# Altium footprint library X.PcbLib: 3 footprints
Each footprint in its own frame and in the unit in brackets; x right, y up, seen from the top. Pads: shape width x height; smd on the part's side, far side on the other; paste and mask are expansions set on the pad; w line width, h text height; cw(c..) or ccw(c..) is an arc to the next point about the centre after c.
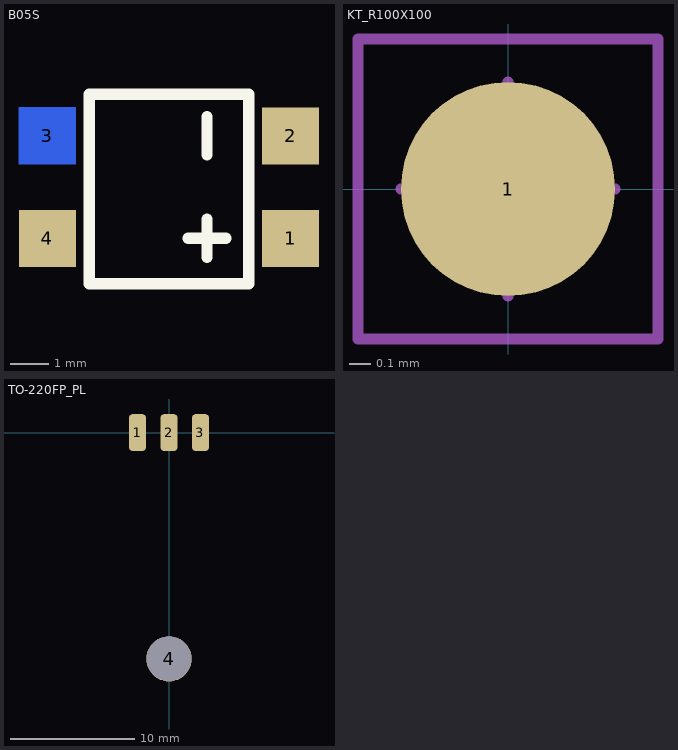
[diagram p0: the footprints below, top view; thin cyan lines are the x and y axes]

## B05S [mm]
pads (4):
  rect 1.5x1.5 smd: 1(19.304,10.16) 2(19.304,12.86) 4(12.904,10.16)
  rect 1.5x1.5 smd far side: 3(12.904,12.86)
Top Overlay:
  lines w0.3: 16.604,10.16 17.604,10.16 ; 17.104,9.66 17.104,10.66 ; 17.104,12.36 17.104,13.36 ; 14.004,8.96 14.004,13.96 18.204,13.96 18.204,8.96 14.004,8.96

## KT_R100X100 [mm] "KT, Round, 1mm x 1mm"
height 0.018
pads (1):
  round 1 smd: 1(0,0)
Mechanical 15:
  lines w0.05: -0.5,0 0.5,0 ; 0,-0.5 0,0.5 ; -0.7,-0.7 0.7,-0.7 0.7,0.7 -0.7,0.7 -0.7,-0.7

## TO-220FP_PL [mm]
pads (4):
  rrect50% 1.4x3 all layers, no hole: 1(-2.54,0) 2(0,0) 3(2.54,0)
  round 3.65 hole 3.6: 4(0,-18.26)
Bottom Overlay:
  region: -3.24,-5.51 -3.24,-2.81 -2.94,-2.51 -2.94,-0.02 -2.14,-0.02 -2.14,-2.51 -1.84,-2.81 -1.84,-5.51
  region: -0.7,-5.51 -0.7,-2.81 -0.4,-2.51 -0.4,-0.02 0.4,-0.02 0.4,-2.51 0.7,-2.81 0.7,-5.51
  region: 1.84,-5.51 1.84,-2.81 2.14,-2.51 2.14,-0.02 2.94,-0.02 2.94,-2.51 3.24,-2.81 3.24,-5.51
  lines w0.2: -5,-14.01 5,-14.01 ; -2.5,-22.71 2.5,-22.71 ; -2.5,-22.7 -2.5,-21.51 -5,-21.51 -5,-5.51 5,-5.51 5,-21.51 2.5,-21.51 2.5,-22.7